# Altium footprint library TO-220_Bended_Radiator_2.PcbLib: 1 footprints
Each footprint in its own frame and in the unit in brackets; x right, y up, seen from the top. Pads: shape width x height; smd on the part's side, far side on the other; paste and mask are expansions set on the pad; w line width, h text height; cw(c..) or ccw(c..) is an arc to the next point about the centre after c.
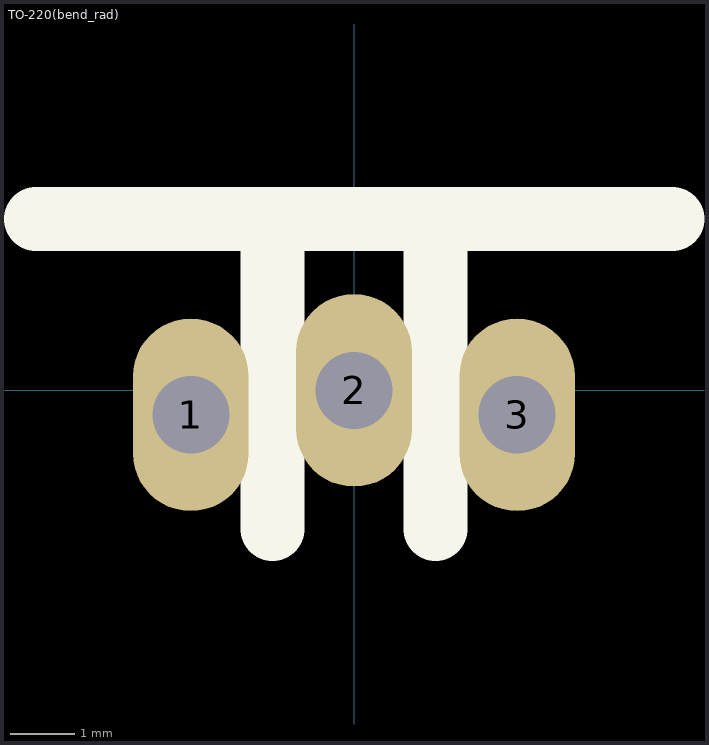
[diagram p0: the footprint, top view; thin cyan lines are the x and y axes]

## TO-220(bend_rad) [mm]
pads (3):
  oval 1.8x3 hole 1.2: 1(-2.54,-0.381) 2(0,0) 3(2.54,-0.381)
Top Overlay:
  lines w1: -4.953,2.667 4.953,2.667 ; -1.27,-2.159 -1.27,2.54 ; 1.27,-2.159 1.27,2.54
Bottom Overlay:
  lines w1: -4.953,2.667 4.953,2.667 ; -1.27,-2.159 -1.27,2.667 ; 1.27,-2.159 1.27,2.667
3D body "TO220 (bend 2).STEP": height 19.68, standoff -4.05, extent -4.985,-2.187 4.985,2.686